# EAGLE library part ARDUINO_PRO_MICRO_HECTOR (library Arduino pro micro hector)
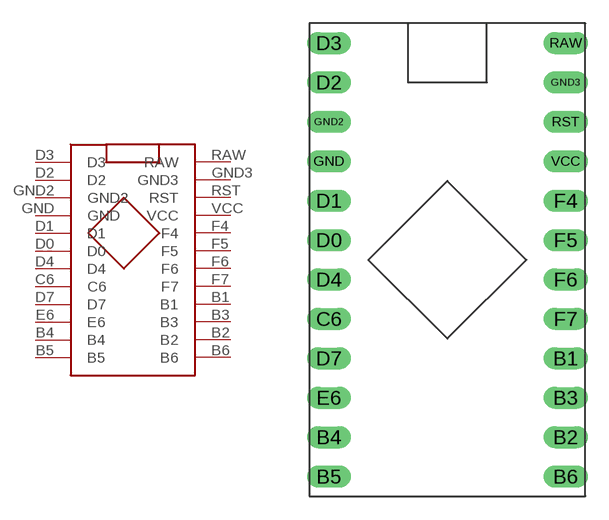
[diagram p0: symbol with the pads of ARDUINO_PRO_MICRO_HECTOR; footprint ARDUINO_PRO_MICRO_HECTOR]

Designator prefix -

## ARDUINO_PRO_MICRO_HECTOR  [ARDUINO_PRO_MICRO_HECTOR]
B1  B1
B2  B2
B3  B3
B4  B4
B5  B5
B6  B6
C6  C6
D0  D0
D1  D1
D2  D2
D3  D3
D4  D4
D7  D7
E6  E6
F4  F4
F5  F5
F6  F6
F7  F7
GND  GND
GND2  GND2
GND3  GND3
RAW  RAW
RST  RST
VCC  VCC

## Footprint ARDUINO_PRO_MICRO_HECTOR (pad centres in mm)
drill 0.6 pad 1.422 long: B1 10.16,-5.08; B2 10.16,-10.16; B3 10.16,-7.62; B4 -5.08,-10.16; B5 -5.08,-12.7; B6 10.16,-12.7; C6 -5.08,-2.54; D0 -5.08,2.54; D1 -5.08,5.08; D2 -5.08,12.7; D3 -5.08,15.24; D4 -5.08,0; D7 -5.08,-5.08; E6 -5.08,-7.62; F4 10.16,5.08; F5 10.16,2.54; F6 10.16,0; F7 10.16,-2.54; GND -5.08,7.62; GND2 -5.08,10.16; GND3 10.16,12.7; RAW 10.16,15.24; RST 10.16,10.16; VCC 10.16,7.62